# EAGLE library part TRANS_ER35/20/11 (library DSS)
Трансформатор
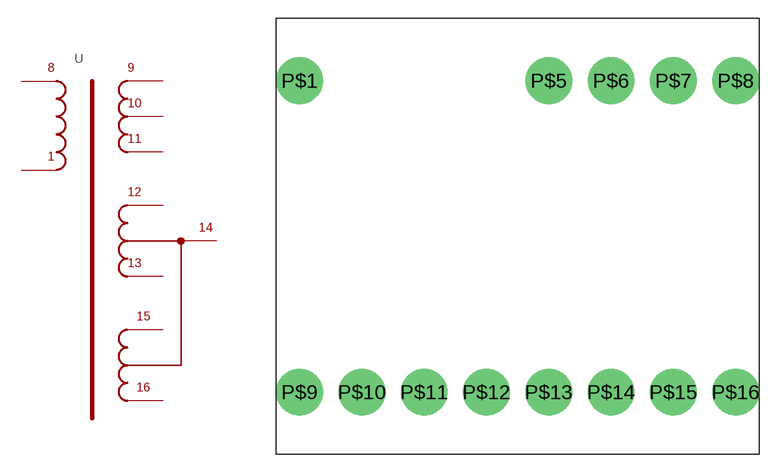
[diagram p1: symbol with the pads of ER35/20/11; footprint ER35/20/11]

Designator prefix -

## TRANS_ER35/20/11-1  [ER35/20/11]
P$1  P$2
P$8  P$1
P$9  P$3
P$10  P$4
P$11  P$5
P$12  P$6
P$13  P$7
P$14  P$8
P$15  P$9
P$16  P$10

## Footprint ER35/20/11 (pad centres in mm)
drill 1 pad 3.81: P$1 -17.78,21.59; P$5 2.54,21.59; P$6 7.62,21.59; P$7 12.7,21.59; P$8 17.78,21.59; P$9 -17.78,-3.81; P$10 -12.7,-3.81; P$11 -7.62,-3.81; P$12 -2.54,-3.81; P$13 2.54,-3.81; P$14 7.62,-3.81; P$15 12.7,-3.81; P$16 17.78,-3.81